# Altium schematic symbol library U_430182043816.SchLib: 1 symbol
Pins are listed as number, name and electrical type; pins without a type are passive.

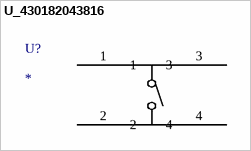
[diagram p0: symbol U_430182043816]

## U_430182043816
designator U?
No Description Available; Mfr_Name: Wurth Electronics; RefDes: RefDes; Type: Type
footprint SOIC_82043816_WRE
pins: 1, 2, 3, 4